# EAGLE library part TEXAS-INSTRUMENTS_BY_ELEMENT14_BATCH_1_DRV8811PWP (library MotherboardRev2)
STEPPER MOTOR CONTROLLER IC
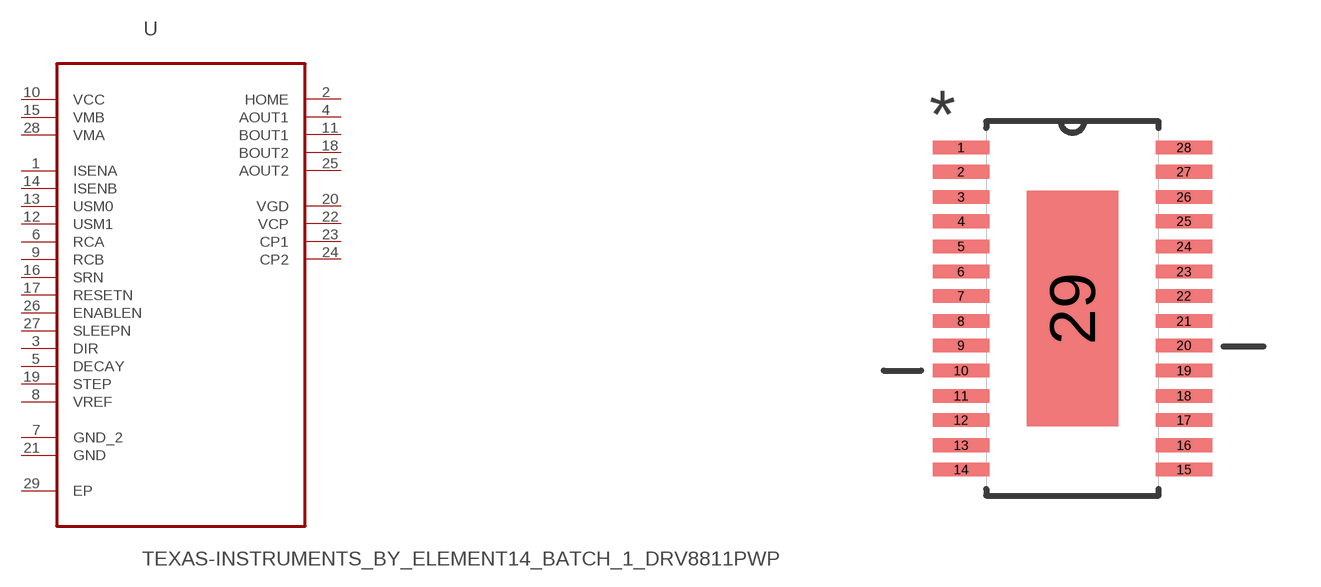
[diagram p4: symbol with the pads of TEXAS-INSTRUMENTS_BY_ELEMENT14_BATCH_1_SOP65P640X120-29N; footprint TEXAS-INSTRUMENTS_BY_ELEMENT14_BATCH_1_SOP65P640X120-29N]

Designator prefix U

## TEXAS-INSTRUMENTS_BY_ELEMENT14_BATCH_1_DRV8811PWP (MPN: DRV8811PWP; OC_FARNELL: 1754829; OC_NEWARK: 24R9116; PACKAGE: HTSSOP-28; SUPPLIER: Texas Instruments)  [TEXAS-INSTRUMENTS_BY_ELEMENT14_BATCH_1_SOP65P640X120-29N]
1  ISENA  in
2  HOME  out
3  DIR  in
4  AOUT1  out
5  DECAY  in
6  RCA  in
7  GND_2  pas
8  VREF  in
9  RCB  in
10  VCC  pwr
11  BOUT1  out
12  USM1  in
13  USM0  in
14  ISENB  in
15  VMB  pwr
16  SRN  in
17  RESETN  in
18  BOUT2  out
19  STEP  in
20  VGD
21  GND  pas
22  VCP
23  CP1
24  CP2
25  AOUT2  out
26  ENABLEN  in
27  SLEEPN  in
28  VMA  pwr
29  EP  pas

## Footprint TEXAS-INSTRUMENTS_BY_ELEMENT14_BATCH_1_SOP65P640X120-29N (pad centres in mm)
smd 1.473 x 0.356: 1 -2.921,4.216; 2 -2.921,3.581; 3 -2.921,2.921; 4 -2.921,2.286; 5 -2.921,1.626; 6 -2.921,0.965; 7 -2.921,0.33; 8 -2.921,-0.33; 9 -2.921,-0.965; 10 -2.921,-1.626; 11 -2.921,-2.286; 12 -2.921,-2.921; 13 -2.921,-3.581; 14 -2.921,-4.216; 15 2.921,-4.216; 16 2.921,-3.581; 17 2.921,-2.921; 18 2.921,-2.286; 19 2.921,-1.626; 20 2.921,-0.965; 21 2.921,-0.33; 22 2.921,0.33; 23 2.921,0.965; 24 2.921,1.626; 25 2.921,2.286; 26 2.921,2.921; 27 2.921,3.581; 28 2.921,4.216
smd 2.388 x 6.172: 29 0,0